# EAGLE library part OPA2541AM (library 2025-01-01_18-24-55_Library)
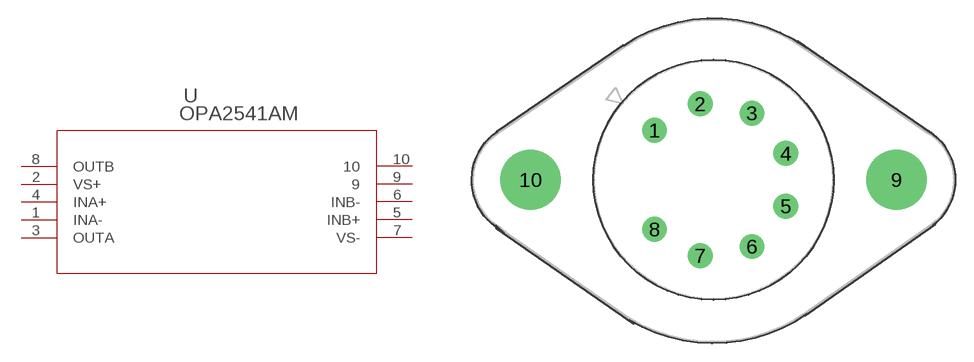
[diagram p0: symbol with the pads of LMF8_TEX; footprint LMF8_TEX]

Designator prefix U

## OPA2541AMBB3553AM (COPYRIGHT: Copyright (C) 2025 Ultra Librarian. All rights reserved.; MANUFACTURER_PART_NUMBER: OPA2541AM; MFR_NAME: Texas Instruments)  [LMF8_TEX]
1  INA-  in
2  VS+  pwr
3  OUTA  out
4  INA+  in
5  INB+  in
6  INB-  in
7  VS-  pwr
8  OUTB  out
9  9  pas
10  10  pas

## Footprint LMF8_TEX (pad centres in mm)
drill 1.372 pad 1.88: 1 0,0; 2 3.762,2.172; 3 8.039,1.418; 4 10.831,-1.91; 5 10.831,-6.253; 6 8.039,-9.581; 7 3.762,-10.335; 8 0,-8.163
drill 3.962 pad 3.962: 9 19.952,-4.082; 10 -10.223,-4.082